# Altium footprint library PCB - DIODES - ST QFN-2L 1.6X1.0MM.PcbLib: 1 footprints
Each footprint in its own frame and in the unit in brackets; x right, y up, seen from the top. Pads: shape width x height; smd on the part's side, far side on the other; paste and mask are expansions set on the pad; w line width, h text height; cw(c..) or ccw(c..) is an arc to the next point about the centre after c.
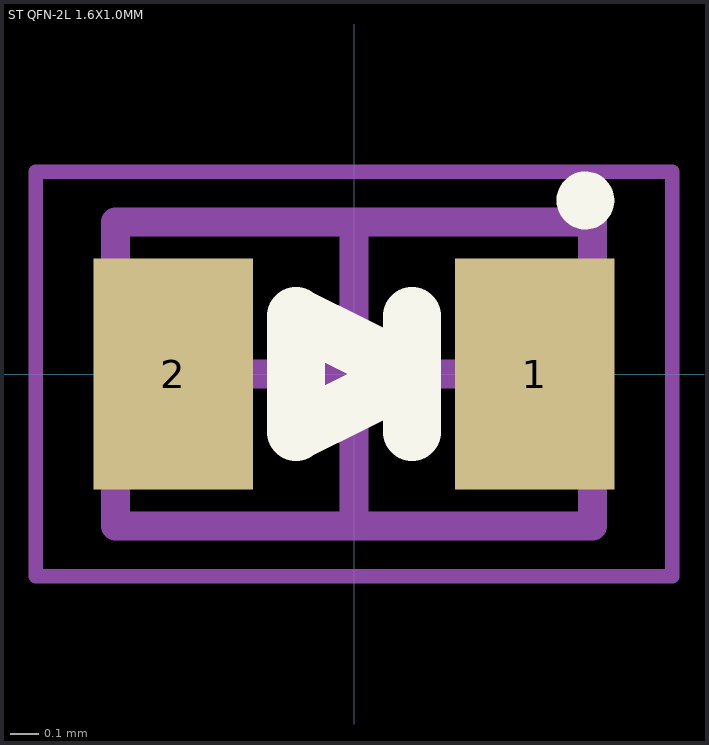
[diagram p0: the footprint, top view; thin cyan lines are the x and y axes]

## ST QFN-2L 1.6X1.0MM [mm] "DFN, 2-Leads, Body 1.00x1.60mm, Pitch 1.05mm"
height 0.6
pads (2):
  rect 0.55x0.8 smd: 1(0.625,0) 2(-0.625,0)
Top Overlay:
  circle w0.1: c0.8,0.6 r0.05
  lines w0.2: 0.2,-0.2 0.2,0.2 ; -0.2,-0.2 -0.2,0.2 0.2,0 -0.2,-0.2
Mechanical 13:
  lines w0.1: -0.825,-0.525 -0.825,0.525 0.825,0.525 0.825,-0.525 -0.825,-0.525
Mechanical 15:
  lines w0.05: -1.1,-0.7 -1.1,0.7 1.1,0.7 1.1,-0.7 -1.1,-0.7
  lines w0.1: -0.5,0 0.5,0 ; 0,-0.5 0,0.5
3D body "ST QFN-2L 1.6X1.0MM.step": height 0.55, standoff 0, extent -0.8,-0.5 0.8,0.5